# Altium footprint library 无线局域通信.PcbLib: 16 footprints
Each footprint in its own frame and in the unit in brackets; x right, y up, seen from the top. Pads: shape width x height; smd on the part's side, far side on the other; paste and mask are expansions set on the pad; w line width, h text height; cw(c..) or ccw(c..) is an arc to the next point about the centre after c.
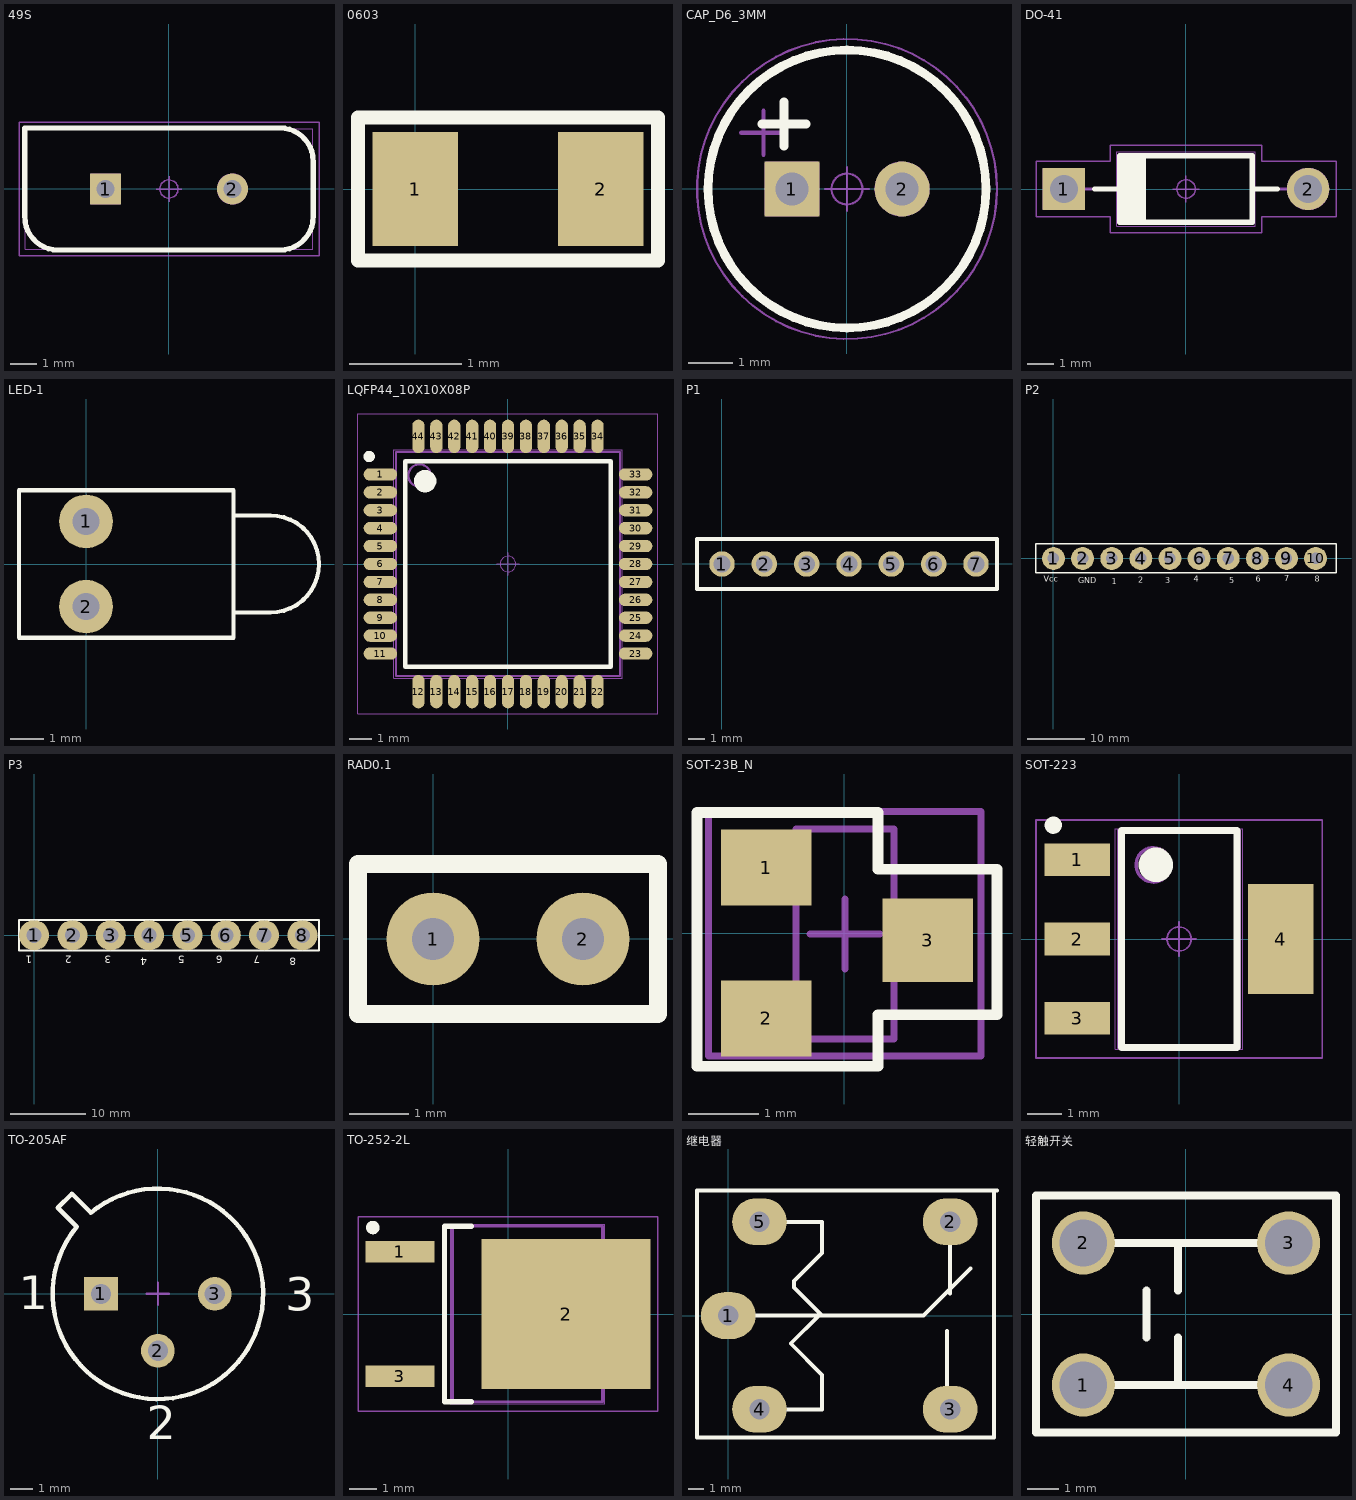
[diagram p0: the footprints below, top view; thin cyan lines are the x and y axes]

## 49S [mm]
pads (2):
  rect 1.2x1.2 hole 0.7: 1(-2.44,0)
  round 1.2 hole 0.7: 2(2.44,0)
Top Overlay:
  lines w0.2: -5.55,-1.08 ccw(c-4.28,-1.08) -4.28,-2.35 4.28,-2.35 ccw(c4.28,-1.08) 5.55,-1.08 5.55,1.08 ccw(c4.28,1.08) 4.28,2.35 -5.55,2.35 -5.55,-1.08
Mechanical 15:
  circle w0.1: c2.44,0 r0.55
  lines w0.1: -5.525,-1.055 ccw(c-4.255,-1.055) -4.255,-2.325 4.255,-2.325 ccw(c4.255,-1.055) 5.525,-1.055 5.525,1.055 ccw(c4.255,1.055) 4.255,2.325 -5.525,2.325 -5.525,-1.055 ; -2.99,-0.55 -2.99,0.55 -1.89,0.55 -1.89,-0.55 -2.99,-0.55
Mechanical 16:
  circle w0.05: c0,0 r0.35
  lines w0.001: -5.525,-2.325 -5.525,2.325 5.525,2.325 5.525,-2.325 -5.525,-2.325
  lines w0.05: -0.5,0 0.5,0 ; 0,-0.5 0,0.5 ; -5.775,-2.575 -5.775,2.575 5.775,2.575 5.775,-2.575 -5.775,-2.575

## 0603 [mil]
pads (2):
  rect 30x40 smd: 1(0,0) 2(65,0)
Top Overlay:
  lines w5: -20,-25 85,-25 85,25 -20,25 -20,-25

## CAP_D6_3MM [mm]
pads (2):
  rect 1.25x1.25 hole 0.75: 1(-1.25,0)
  round 1.25 hole 0.75: 2(1.25,0)
Top Overlay:
  circle w0.2: c0,0 r3.15
  lines w0.2: -1.925,1.475 -0.925,1.475 ; -1.425,0.975 -1.425,1.975
Mechanical 15:
  circle w0.1: c1.25,0 r0.575
  circle w0.1: c0,0 r3.15
  lines w0.1: -2.393,1.275 -1.393,1.275 ; -1.893,0.775 -1.893,1.775 ; -1.825,-0.575 -0.675,-0.575 -0.675,0.575 -1.825,0.575 -1.825,-0.575
Mechanical 16:
  circle w0.05: c0,0 r0.35
  circle w0.1: c1.25,0 r0.575
  circle w0.05: c0,0 r3.4
  circle w0.001: c0,0 r3.15
  lines w0.05: -0.5,0 0.5,0 ; 0,-0.5 0,0.5
  lines w0.1: -1.825,-0.575 -1.825,0.575 -0.675,0.575 -0.675,-0.575 -1.825,-0.575

## DO-41 [mm]
pads (2):
  rect 1.6x1.6 hole 1.05: 1(-4.6,0)
  round 1.6 hole 1.05: 2(4.6,0)
Top Overlay:
  lines w0.2: -3.45,0 -2.5,0 ; -2.3,-1.25 -2.3,1.25 ; -2.2,-1.25 -2.2,1.25 ; -2.1,-1.25 -2.1,1.25 ; -2,-1.25 -2,1.25 ; -1.9,-1.25 -1.9,1.25 ; -1.8,-1.25 -1.8,1.25 ; -1.7,-1.25 -1.7,1.25 ; -1.6,-1.25 -1.6,1.25 ; 2.5,0 3.45,0 ; -2.5,-1.25 2.5,-1.25 2.5,1.25 -2.5,1.25 -2.5,-1.25
Mechanical 15:
  circle w0.1: c4.6,0 r0.75
  lines w0.1: -4.6,0 -2.5,0 ; -2.4,-1.25 -2.4,1.25 ; -2.3,-1.25 -2.3,1.25 ; -2.2,-1.25 -2.2,1.25 ; -2.1,-1.25 -2.1,1.25 ; -2,-1.25 -2,1.25 ; -1.9,-1.25 -1.9,1.25 ; -1.8,-1.25 -1.8,1.25 ; -1.7,-1.25 -1.7,1.25 ; 2.5,0 4.6,0 ; -5.35,-0.75 -5.35,0.75 -3.85,0.75 -3.85,-0.75 -5.35,-0.75 ; -2.5,-1.25 2.5,-1.25 2.5,1.25 -2.5,1.25 -2.5,-1.25
Mechanical 16:
  circle w0.1: c4.6,0 r0.75
  circle w0.05: c0,0 r0.35
  lines w0.001: -2.6,-1.4 2.6,-1.4 2.6,1.4 -2.6,1.4 -2.6,-1.4
  lines w0.05: -0.5,0 0.5,0 ; 0,-0.5 0,0.5 ; -5.65,-1.05 -2.85,-1.05 -2.85,-1.65 2.85,-1.65 2.85,-1.05 5.65,-1.05 5.65,1.05 2.85,1.05 2.85,1.65 -2.85,1.65 -2.85,1.05 -5.65,1.05 -5.65,-1.05
  lines w0.1: -5.35,-0.75 -5.35,0.75 -3.85,0.75 -3.85,-0.75 -5.35,-0.75

## LED-1 [mm]
pads (2):
  round 1.6 hole 0.8: 1(0,1.27) 2(0,-1.27)
Top Overlay:
  lines w0.127: 4.4,-1.45 5.5,-1.45 ccw(c5.5,0) 5.5,1.45 4.4,1.45 ; -2,-2.2 4.4,-2.2 4.4,2.2 -2,2.2 -2,-2.2

## LQFP44_10X10X08P [mm]
pads (44):
  oval 1.5x0.55 smd: 1(-5.7,4) 2(-5.7,3.2) 3(-5.7,2.4) 4(-5.7,1.6) 5(-5.7,0.8) 6(-5.7,0) 7(-5.7,-0.8) 8(-5.7,-1.6) 9(-5.7,-2.4) 10(-5.7,-3.2) 11(-5.7,-4) 23(5.7,-4) 24(5.7,-3.2) 25(5.7,-2.4) 26(5.7,-1.6) 27(5.7,-0.8) 28(5.7,0) 29(5.7,0.8) 30(5.7,1.6) 31(5.7,2.4) 32(5.7,3.2) 33(5.7,4)
  oval 0.55x1.5 smd: 12(-4,-5.7) 13(-3.2,-5.7) 14(-2.4,-5.7) 15(-1.6,-5.7) 16(-0.8,-5.7) 17(0,-5.7) 18(0.8,-5.7) 19(1.6,-5.7) 20(2.4,-5.7) 21(3.2,-5.7) 22(4,-5.7) 34(4,5.7) 35(3.2,5.7) 36(2.4,5.7) 37(1.6,5.7) 38(0.8,5.7) 39(0,5.7) 40(-0.8,5.7) 41(-1.6,5.7) 42(-2.4,5.7) 43(-3.2,5.7) 44(-4,5.7)
Top Overlay:
  circle w0.5: c-3.7,3.7 r0.25
  circle w0.25: c-6.2,4.8 r0.125
  lines w0.2: -4.6,-4.6 4.6,-4.6 4.6,4.6 -4.6,4.6 -4.6,-4.6
Mechanical 15:
  circle w0.1: c-3.95,3.95 r0.5
  lines w0.1: -5,-5 5,-5 5,5 -5,5 -5,-5
Mechanical 16:
  circle w0.05: c0,0 r0.35
  lines w0.001: -5.1,-5.1 5.1,-5.1 5.1,5.1 -5.1,5.1 -5.1,-5.1
  lines w0.05: -0.5,0 0.5,0 ; 0,-0.5 0,0.5 ; -6.7,-6.7 6.7,-6.7 6.7,6.7 -6.7,6.7 -6.7,-6.7

## P1 [mil]
pads (7):
  round 60 hole 39.37: 1(0,0) 2(100,0) 3(200,0) 4(300,0) 5(400,0) 6(500,0) 7(600,0)
Top Overlay:
  lines w10: -59.05,-59.06 649.61,-59.06 649.61,59.05 -59.05,59.05 -59.05,39.37 -59.05,-39.37 -59.05,-59.06

## P2 [mm]
pads (10):
  round 4 hole 2: 1(0,0) 2(5.08,0) 3(10.16,0) 4(15.24,0) 5(20.32,0) 6(25.4,0) 7(30.48,0) 8(35.56,0) 9(40.64,0) 10(45.72,0)
Top Overlay:
  lines w0.254: -3.048,-2.54 49.276,-2.54 49.276,2.54 -3.048,2.54 -3.048,-2.54
  text "Vcc" at -1.69,-4.111 h1
  text "GND" at 4.279,-4.365 h1
  text "1" at 10.121,-4.492 h1
  text "2" at 14.82,-4.238 h1
  text "3" at 19.519,-4.365 h1
  text "4" at 24.472,-4.111 h1
  text "5" at 30.695,-4.365 h1
  text "6" at 35.267,-4.111 h1
  text "7" at 40.22,-3.984 h1
  text "8" at 45.554,-4.111 h1

## P3 [mm]
pads (8):
  round 4 hole 2: 1(0,0) 2(5.08,0) 3(10.16,0) 4(15.24,0) 5(20.32,0) 6(25.4,0) 7(30.48,0) 8(35.56,0)
Top Overlay:
  lines w0.254: -2,-2 37.762,-2 37.762,2 -2,2 -2,-2
  text "1" at -0.25,-2.75 h1
  text "2" at 5,-2.75 h1
  text "3" at 10.25,-2.75 h1
  text "4" at 15,-3 h1
  text "5" at 20,-2.75 h1
  text "6" at 25,-2.75 h1
  text "7" at 30,-2.75 h1
  text "8" at 34.75,-3 h1

## RAD0.1 [mil]
pads (2):
  round 62 hole 28: 1(0,0) 2(100,0)
Top Overlay:
  lines w12: -50,-50 150,-50 150,50 -50,50 -50,-50

## SOT-23B_N [mil]
height 44.88
pads (3):
  rect 51x43 smd: 1(-44.01,36.97) 2(-44.01,-48.03)
  rect 51x47 smd: 3(46.99,-4.03)
Top Overlay:
  lines w6: -83.01,-75.03 18.99,-75.03 18.99,-46.03 85.99,-46.03 85.99,35.97 18.99,35.97 18.99,67.97 -1.01,67.97 -83.01,67.97 -83.01,-74.03
Mechanical 13:
  lines w3.94: -27.28,-59.49 -27.28,58.62 27.84,58.62 27.84,-59.49 -27.28,-59.49
Mechanical 15:
  lines w3.94: -19.4,-0.43 19.97,-0.43 ; 0.28,-20.12 0.28,19.25 ; -76.49,-69.33 -76.49,68.47 77.05,68.47 77.05,-69.33 -76.49,-69.33

## SOT-223 [mm]
pads (4):
  rect 1.9x0.95 smd: 1(-2.95,2.3) 2(-2.95,0) 3(-2.95,-2.3)
  rect 1.9x3.2 smd: 4(2.95,0)
Top Overlay:
  circle w0.25: c-3.65,3.3 r0.125
  circle w0.5: c-0.675,2.15 r0.25
  lines w0.2: -1.675,-3.15 -1.675,3.15 1.675,3.15 1.675,-3.15 -1.675,-3.15
Mechanical 15:
  circle w0.1: c-0.75,2.15 r0.5
  lines w0.1: -1.75,-3.15 -1.75,3.15 1.75,3.15 1.75,-3.15 -1.75,-3.15
  text "1" at 0.45,-0.164 h0.75
Mechanical 16:
  circle w0.05: c0,0 r0.35
  lines w0.001: -1.85,-3.2 -1.85,3.2 1.85,3.2 1.85,-3.2 -1.85,-3.2
  lines w0.05: -0.5,0 0.5,0 ; 0,-0.5 0,0.5 ; -4.15,-3.45 -4.15,3.45 4.15,3.45 4.15,-3.45 -4.15,-3.45

## TO-205AF [mm]
height 4.57
pads (3):
  rect 1.5x1.5 hole 0.9: 1(-2.54,0)
  round 1.5 hole 0.9: 2(0,-2.54) 3(2.54,0)
Top Overlay:
  lines w0.2: -4.475,3.838 -3.838,4.475 -2.99,3.626 cw(c0,0) -3.626,2.99 -4.475,3.838
  text "3" at 5.694,-0.751 h1.5
  text "2" at -0.5,-6.5 h1.5
  text "1" at -6.201,-0.697 h1.5
Mechanical 15:
  lines w0.1: -0.5,0 0.5,0 ; 0,-0.5 0,0.5

## TO-252-2L [mm]
pads (3):
  rect 2.55x0.8 smd: 1(-4,2.3) 3(-4,-2.3)
  rect 6.25x5.55 smd: 2(2.15,0)
Top Overlay:
  circle w0.25: c-5,3.2 r0.125
  lines w0.2: -1.35,-3.25 -2.35,-3.25 -2.35,3.25 -1.35,3.25
Mechanical 15:
  lines w0.1: 3.5,-2.668 3.946,-2.668 4.85,-1.666 4.85,1.666 3.946,2.668 3.5,2.668 ; -2.05,-3.25 -2.05,3.25 3.5,3.25 3.5,-3.25 -2.05,-3.25
Mechanical 16:
  circle w0.05: c0,0 r0.35
  lines w0.001: -2.125,-3.325 -2.125,3.325 3.575,3.325 3.575,-3.325 -2.125,-3.325
  lines w0.05: -0.5,0 0.5,0 ; 0,-0.5 0,0.5 ; -5.55,-3.6 -5.55,3.6 5.55,3.6 5.55,-3.6 -5.55,-3.6

## 继电器 [mm]
pads (5):
  oval 3.5x3 hole 1.3: 1(0.005,0) 2(14.205,6) 3(14.205,-6) 4(2.005,-6) 5(2.005,6)
Top Overlay:
  lines w0.254: 0.005,0 10.005,0 12.205,0 12.505,0 15.505,3 ; 2.005,-6 6.005,-6 6.005,-3.8 4.005,-1.8 5.805,0 6.005,0 4.205,1.8 4.205,2.2 6.005,4 6.005,6 2.005,6 ; 14.005,-5.4 14.005,-1 ; 14.205,1.4 14.205,6 ; 17.005,8 17.005,-7.8 -1.995,-7.8 -1.995,8 17.205,8

## 轻触开关 [mm]
pads (4):
  round 2 hole 1.5: 1(-3.25,-2.25) 2(-3.25,2.25) 3(3.25,2.25) 4(3.25,-2.25)
Top Overlay:
  lines w0.254: -3.25,-2.25 3.25,-2.25 ; -3.25,2.25 3.25,2.25 ; -1.25,-0.75 -1.25,0.75 ; -0.25,-2.25 -0.25,-0.75 ; -0.25,0.75 -0.25,2.25 ; -4.75,-3.75 4.75,-3.75 4.75,3.75 -4.75,3.75 -4.75,-3.75